# Altium footprint library BASIC Library.PCBLIB: 464 footprints (part 16 of 30)
Each footprint in its own frame and in the unit in brackets; x right, y up, seen from the top. Pads: shape width x height; smd on the part's side, far side on the other; paste and mask are expansions set on the pad; w line width, h text height; cw(c..) or ccw(c..) is an arc to the next point about the centre after c.
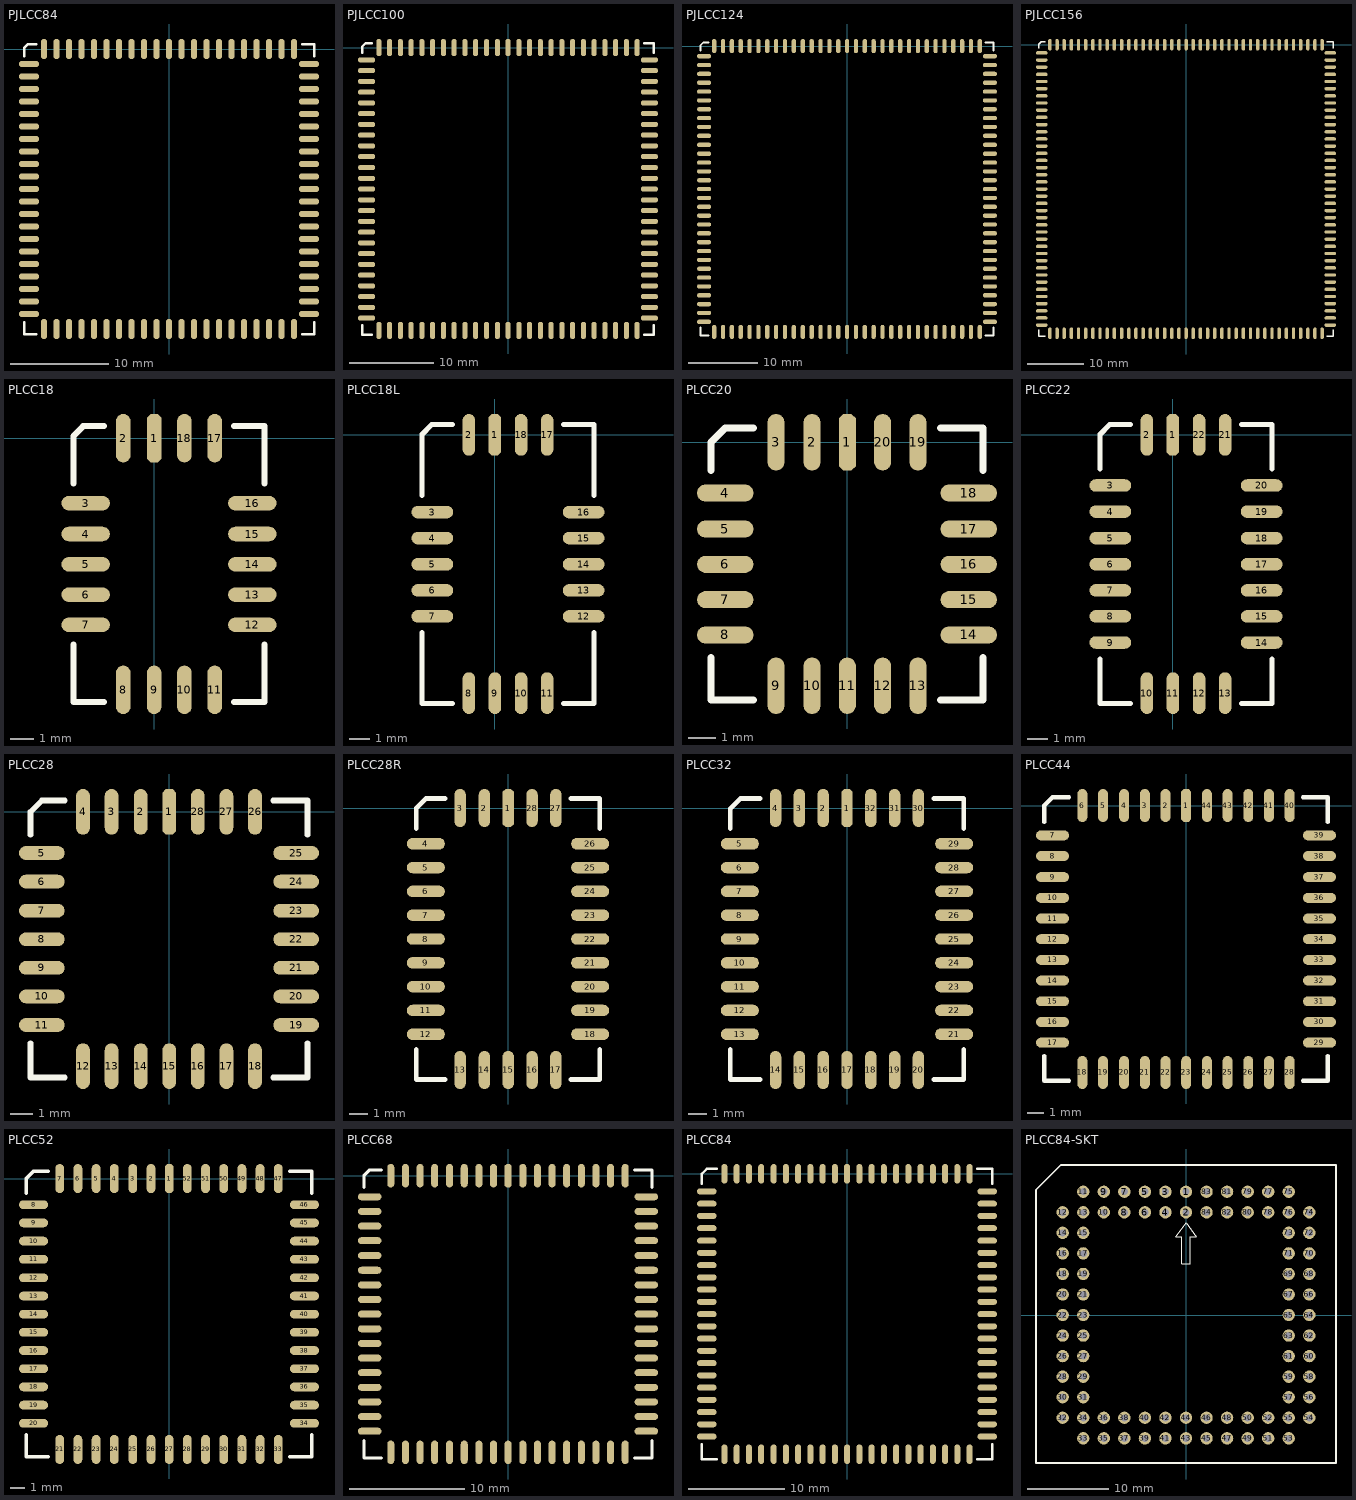
[diagram p15: the footprints below, top view; thin cyan lines are the x and y axes]

## PJLCC84 [mil]
pads (84):
  oct 24x80 smd: 1(0,0)
  oval 24x80 smd: 2(-50,0) 3(-100,0) 4(-150,0) 5(-200,0) 6(-250,0) 7(-300,0) 8(-350,0) 9(-400,0) 10(-450,0) 11(-500,0) 33(-500,-1120) 34(-450,-1120) 35(-400,-1120) 36(-350,-1120) 37(-300,-1120) 38(-250,-1120) 39(-200,-1120) 40(-150,-1120) 41(-100,-1120) 42(-50,-1120) 43(0,-1120) 44(50,-1120) 45(100,-1120) 46(150,-1120) 47(200,-1120) 48(250,-1120) 49(300,-1120) 50(350,-1120) 51(400,-1120) 52(450,-1120) 53(500,-1120) 75(500,0) 76(450,0) 77(400,0) 78(350,0) 79(300,0) 80(250,0) 81(200,0) 82(150,0) 83(100,0) 84(50,0)
  oval 80x24 smd: 12(-560,-60) 13(-560,-110) 14(-560,-160) 15(-560,-210) 16(-560,-260) 17(-560,-310) 18(-560,-360) 19(-560,-410) 20(-560,-460) 21(-560,-510) 22(-560,-560) 23(-560,-610) 24(-560,-660) 25(-560,-710) 26(-560,-760) 27(-560,-810) 28(-560,-860) 29(-560,-910) 30(-560,-960) 31(-560,-1010) 32(-560,-1060) 54(560,-1060) 55(560,-1010) 56(560,-960) 57(560,-910) 58(560,-860) 59(560,-810) 60(560,-760) 61(560,-710) 62(560,-660) 63(560,-610) 64(560,-560) 65(560,-510) 66(560,-460) 67(560,-410) 68(560,-360) 69(560,-310) 70(560,-260) 71(560,-210) 72(560,-160) 73(560,-110) 74(560,-60)
TopOverlay:
  lines w10: -580,-1092 -580,-1140 -532,-1140 ; -580,-28 -580,4 -564,20 -532,20 ; 532,-1140 580,-1140 580,-1092 ; 532,20 580,20 580,-28

## PJLCC100 [mil]
pads (100):
  oct 24x80 smd: 1(0,0)
  oval 24x80 smd: 2(-50,0) 3(-100,0) 4(-151,0) 5(-201,0) 6(-251,0) 7(-301,0) 8(-351,0) 9(-401,0) 10(-451,0) 11(-501,0) 12(-551,0) 13(-601,0) 39(-601,-1315) 40(-551,-1315) 41(-501,-1315) 42(-451,-1315) 43(-401,-1315) 44(-351,-1315) 45(-301,-1315) 46(-251,-1315) 47(-201,-1315) 48(-151,-1315) 49(-100,-1315) 50(-50,-1315) 51(0,-1315) 52(50,-1315) 53(100,-1315) 54(150,-1315) 55(200,-1315) 56(250,-1315) 57(300,-1315) 58(350,-1315) 59(400,-1315) 60(450,-1315) 61(500,-1315) 62(550,-1315) 63(600,-1315) 89(600,0) 90(550,0) 91(500,0) 92(450,0) 93(400,0) 94(350,0) 95(300,0) 96(250,0) 97(200,0) 98(150,0) 99(100,0) 100(50,0)
  oval 80x24 smd: 14(-658,-57) 15(-658,-107) 16(-658,-157) 17(-658,-207) 18(-658,-257) 19(-658,-307) 20(-658,-357) 21(-658,-407) 22(-658,-457) 23(-658,-507) 24(-658,-558) 25(-658,-608) 26(-658,-658) 27(-658,-708) 28(-658,-758) 29(-658,-808) 30(-658,-858) 31(-658,-908) 32(-658,-958) 33(-658,-1008) 34(-658,-1058) 35(-658,-1108) 36(-658,-1158) 37(-658,-1208) 38(-658,-1258) 64(657,-1258) 65(657,-1208) 66(657,-1158) 67(657,-1108) 68(657,-1058) 69(657,-1008) 70(657,-958) 71(657,-908) 72(657,-858) 73(657,-808) 74(657,-758) 75(657,-708) 76(657,-658) 77(657,-608) 78(657,-558) 79(657,-507) 80(657,-457) 81(657,-407) 82(657,-357) 83(657,-307) 84(657,-257) 85(657,-207) 86(657,-157) 87(657,-107) 88(657,-57)
TopOverlay:
  lines w10: -678,-1290 -678,-1335 -633,-1335 ; -678,-25 -678,5 -663,20 -633,20 ; 632,-1335 677,-1335 677,-1290 ; 632,20 677,20 677,-25

## PJLCC124 [mil]
pads (124):
  oct 24x80 smd: 1(0,0)
  oval 24x80 smd: 2(-50,0) 3(-100,0) 4(-150,0) 5(-200,0) 6(-250,0) 7(-301,0) 8(-351,0) 9(-401,0) 10(-451,0) 11(-501,0) 12(-551,0) 13(-601,0) 14(-651,0) 15(-701,0) 16(-751,0) 48(-751,-1615) 49(-701,-1615) 50(-651,-1615) 51(-601,-1615) 52(-551,-1615) 53(-501,-1615) 54(-451,-1615) 55(-401,-1615) 56(-351,-1615) 57(-301,-1615) 58(-250,-1615) 59(-200,-1615) 60(-150,-1615) 61(-100,-1615) 62(-50,-1615) 63(0,-1615) 64(50,-1615) 65(100,-1615) 66(150,-1615) 67(200,-1615) 68(250,-1615) 69(300,-1615) 70(350,-1615) 71(400,-1615) 72(450,-1615) 73(500,-1615) 74(550,-1615) 75(600,-1615) 76(650,-1615) 77(700,-1615) 78(750,-1615) 110(750,0) 111(700,0) 112(650,0) 113(600,0) 114(550,0) 115(500,0) 116(450,0) 117(400,0) 118(350,0) 119(300,0) 120(250,0) 121(200,0) 122(150,0) 123(100,0) 124(50,0)
  oval 80x24 smd: 17(-808,-57) 18(-808,-107) 19(-808,-157) 20(-808,-207) 21(-808,-257) 22(-808,-307) 23(-808,-357) 24(-808,-407) 25(-808,-457) 26(-808,-507) 27(-808,-558) 28(-808,-608) 29(-808,-658) 30(-808,-708) 31(-808,-758) 32(-808,-808) 33(-808,-858) 34(-808,-908) 35(-808,-958) 36(-808,-1008) 37(-808,-1058) 38(-808,-1108) 39(-808,-1158) 40(-808,-1208) 41(-808,-1258) 42(-808,-1308) 43(-808,-1358) 44(-808,-1408) 45(-808,-1458) 46(-808,-1508) 47(-808,-1558) 79(807,-1558) 80(807,-1508) 81(807,-1458) 82(807,-1408) 83(807,-1358) 84(807,-1308) 85(807,-1258) 86(807,-1208) 87(807,-1158) 88(807,-1108) 89(807,-1058) 90(807,-1008) 91(807,-958) 92(807,-908) 93(807,-858) 94(807,-808) 95(807,-758) 96(807,-708) 97(807,-658) 98(807,-608) 99(807,-558) 100(807,-507) 101(807,-457) 102(807,-407) 103(807,-357) 104(807,-307) 105(807,-257) 106(807,-207) 107(807,-157) 108(807,-107) 109(807,-57)
TopOverlay:
  lines w10: -828,-1590 -828,-1635 -783,-1635 ; -828,-25 -828,5 -813,20 -783,20 ; 782,-1635 827,-1635 827,-1590 ; 782,20 827,20 827,-25

## PJLCC156 [mil]
pads (156):
  oct 24x80 smd: 1(0,0)
  oval 24x80 smd: 2(-50,0) 3(-100,0) 4(-150,0) 5(-200,0) 6(-250,0) 7(-300,0) 8(-350,0) 9(-400,0) 10(-450,0) 11(-501,0) 12(-551,0) 13(-601,0) 14(-651,0) 15(-701,0) 16(-751,0) 17(-801,0) 18(-851,0) 19(-901,0) 20(-951,0) 60(-951,-2015) 61(-901,-2015) 62(-851,-2015) 63(-801,-2015) 64(-751,-2015) 65(-701,-2015) 66(-651,-2015) 67(-601,-2015) 68(-551,-2015) 69(-501,-2015) 70(-450,-2015) 71(-400,-2015) 72(-350,-2015) 73(-300,-2015) 74(-250,-2015) 75(-200,-2015) 76(-150,-2015) 77(-100,-2015) 78(-50,-2015) 79(0,-2015) 80(50,-2015) 81(100,-2015) 82(150,-2015) 83(200,-2015) 84(250,-2015) 85(300,-2015) 86(350,-2015) 87(400,-2015) 88(450,-2015) 89(500,-2015) 90(550,-2015) 91(600,-2015) 92(650,-2015) 93(700,-2015) 94(750,-2015) 95(800,-2015) 96(850,-2015) 97(900,-2015) 98(950,-2015) 138(950,0) 139(900,0) 140(850,0) 141(800,0) 142(750,0) 143(700,0) 144(650,0) 145(600,0) 146(550,0) 147(500,0) 148(450,0) 149(400,0) 150(350,0) 151(300,0) 152(250,0) 153(200,0) 154(150,0) 155(100,0) 156(50,0)
  oval 80x24 smd: 21(-1008,-57) 22(-1008,-107) 23(-1008,-157) 24(-1008,-207) 25(-1008,-257) 26(-1008,-307) 27(-1008,-357) 28(-1008,-407) 29(-1008,-457) 30(-1008,-507) 31(-1008,-558) 32(-1008,-608) 33(-1008,-658) 34(-1008,-708) 35(-1008,-758) 36(-1008,-808) 37(-1008,-858) 38(-1008,-908) 39(-1008,-958) 40(-1008,-1008) 41(-1008,-1058) 42(-1008,-1108) 43(-1008,-1158) 44(-1008,-1208) 45(-1008,-1258) 46(-1008,-1308) 47(-1008,-1358) 48(-1008,-1408) 49(-1008,-1458) 50(-1008,-1508) 51(-1008,-1558) 52(-1008,-1608) 53(-1008,-1658) 54(-1008,-1708) 55(-1008,-1758) 56(-1008,-1808) 57(-1008,-1858) 58(-1008,-1908) 59(-1008,-1958) 99(1007,-1958) 100(1007,-1908) 101(1007,-1858) 102(1007,-1808) 103(1007,-1758) 104(1007,-1708) 105(1007,-1658) 106(1007,-1608) 107(1007,-1558) 108(1007,-1508) 109(1007,-1458) 110(1007,-1408) 111(1007,-1358) 112(1007,-1308) 113(1007,-1258) 114(1007,-1208) 115(1007,-1158) 116(1007,-1108) 117(1007,-1058) 118(1007,-1008) 119(1007,-958) 120(1007,-908) 121(1007,-858) 122(1007,-808) 123(1007,-758) 124(1007,-708) 125(1007,-658) 126(1007,-608) 127(1007,-558) 128(1007,-507) 129(1007,-457) 130(1007,-407) 131(1007,-357) 132(1007,-307) 133(1007,-257) 134(1007,-207) 135(1007,-157) 136(1007,-107) 137(1007,-57)
TopOverlay:
  lines w10: -1028,-1990 -1028,-2035 -983,-2035 ; -1028,-25 -1028,5 -1013,20 -983,20 ; 982,-2035 1027,-2035 1027,-1990 ; 982,20 1027,20 1027,-25

## PLCC18 [mil]
pads (18):
  oct 24x80 smd: 1(0,0)
  oval 24x80 smd: 2(-51,0) 8(-51,-415) 9(0,-415) 10(50,-415) 11(100,-415) 17(100,0) 18(50,0)
  oval 80x24 smd: 3(-113,-107) 4(-113,-158) 5(-113,-208) 6(-113,-258) 7(-113,-308) 12(162,-308) 13(162,-258) 14(162,-208) 15(162,-158) 16(162,-107)
TopOverlay:
  lines w10: -133,-340 -133,-435 -83,-435 ; -133,-75 -133,4 -117,20 -83,20 ; 132,-435 182,-435 182,-340 ; 132,20 182,20 182,-75

## PLCC18L [mil]
pads (18):
  oct 24x80 smd: 1(0,0)
  oval 24x80 smd: 2(-50,0) 8(-50,-495) 9(0,-495) 10(50,-495) 11(100,-495) 17(100,0) 18(50,0)
  oval 80x24 smd: 3(-120,-148) 4(-120,-198) 5(-120,-248) 6(-120,-298) 7(-120,-348) 12(170,-348) 13(170,-298) 14(170,-248) 15(170,-198) 16(170,-148)
TopOverlay:
  lines w10: -140,-379 -140,-515 -82,-515 ; -140,-116 -140,1 -121,20 -82,20 ; 132,-515 190,-515 190,-379 ; 132,20 190,20 190,-116

## PLCC20 [mil]
pads (20):
  oct 24x80 smd: 1(0,0)
  oval 24x80 smd: 2(-50,0) 3(-101,0) 9(-101,-345) 10(-50,-345) 11(0,-345) 12(50,-345) 13(100,-345) 19(100,0) 20(50,0)
  oval 80x24 smd: 4(-173,-72) 5(-173,-123) 6(-173,-173) 7(-173,-223) 8(-173,-273) 14(172,-273) 15(172,-223) 16(172,-173) 17(172,-123) 18(172,-72)
TopOverlay:
  lines w10: -193,-305 -193,-365 -133,-365 ; -193,-40 -193,0 -173,20 -133,20 ; 132,-365 192,-365 192,-305 ; 132,20 192,20 192,-40

## PLCC22 [mil]
pads (22):
  oct 24x80 smd: 1(0,0)
  oval 24x80 smd: 2(-50,0) 10(-50,-495) 11(0,-495) 12(50,-495) 13(100,-495) 21(100,0) 22(50,0)
  oval 80x24 smd: 3(-120,-97) 4(-120,-147) 5(-120,-198) 6(-120,-248) 7(-120,-298) 8(-120,-348) 9(-120,-398) 14(170,-398) 15(170,-348) 16(170,-298) 17(170,-248) 18(170,-198) 19(170,-147) 20(170,-97)
TopOverlay:
  lines w10: -140,-430 -140,-515 -82,-515 ; -140,-65 -140,1 -121,20 -82,20 ; 132,-515 190,-515 190,-430 ; 132,20 190,20 190,-65

## PLCC28 [mil]
pads (28):
  oct 24x80 smd: 1(0,0)
  oval 24x80 smd: 2(-50,0) 3(-101,0) 4(-151,0) 12(-151,-445) 13(-101,-445) 14(-50,-445) 15(0,-445) 16(50,-445) 17(100,-445) 18(150,-445) 26(150,0) 27(100,0) 28(50,0)
  oval 80x24 smd: 5(-223,-72) 6(-223,-122) 7(-223,-173) 8(-223,-223) 9(-223,-273) 10(-223,-323) 11(-223,-373) 19(222,-373) 20(222,-323) 21(222,-273) 22(222,-223) 23(222,-173) 24(222,-122) 25(222,-72)
TopOverlay:
  lines w10: -243,-405 -243,-465 -183,-465 ; -243,-40 -243,0 -223,20 -183,20 ; 182,-465 242,-465 242,-405 ; 182,20 242,20 242,-40

## PLCC28R [mil]
pads (28):
  oct 24x80 smd: 1(0,0)
  oval 24x80 smd: 2(-50,0) 3(-101,0) 13(-101,-550) 14(-50,-550) 15(0,-550) 16(50,-550) 17(100,-550) 27(100,0) 28(50,0)
  oval 80x24 smd: 4(-173,-75) 5(-173,-125) 6(-173,-175) 7(-173,-225) 8(-173,-275) 9(-173,-325) 10(-173,-375) 11(-173,-425) 12(-173,-475) 18(172,-475) 19(172,-425) 20(172,-375) 21(172,-325) 22(172,-275) 23(172,-225) 24(172,-175) 25(172,-125) 26(172,-75)
TopOverlay:
  lines w10: -193,-507 -193,-570 -133,-570 ; -193,-43 -193,0 -173,20 -133,20 ; 132,-570 192,-570 192,-507 ; 132,20 192,20 192,-43

## PLCC32 [mil]
pads (32):
  oct 24x80 smd: 1(0,0)
  oval 24x80 smd: 2(-50,0) 3(-100,0) 4(-150,0) 14(-150,-550) 15(-100,-550) 16(-50,-550) 17(0,-550) 18(50,-550) 19(100,-550) 20(150,-550) 30(150,0) 31(100,0) 32(50,0)
  oval 80x24 smd: 5(-225,-75) 6(-225,-125) 7(-225,-175) 8(-225,-225) 9(-225,-275) 10(-225,-325) 11(-225,-375) 12(-225,-425) 13(-225,-475) 21(225,-475) 22(225,-425) 23(225,-375) 24(225,-325) 25(225,-275) 26(225,-225) 27(225,-175) 28(225,-125) 29(225,-75)
TopOverlay:
  lines w10: -245,-507 -245,-570 -182,-570 ; -245,-43 -245,-1 -224,20 -182,20 ; 182,-570 245,-570 245,-507 ; 182,20 245,20 245,-43

## PLCC44 [mil]
pads (44):
  oct 24x80 smd: 1(0,0)
  oval 24x80 smd: 2(-50,0) 3(-100,0) 4(-150,0) 5(-201,0) 6(-251,0) 18(-251,-645) 19(-201,-645) 20(-150,-645) 21(-100,-645) 22(-50,-645) 23(0,-645) 24(50,-645) 25(100,-645) 26(150,-645) 27(200,-645) 28(250,-645) 40(250,0) 41(200,0) 42(150,0) 43(100,0) 44(50,0)
  oval 80x24 smd: 7(-323,-72) 8(-323,-122) 9(-323,-173) 10(-323,-223) 11(-323,-273) 12(-323,-323) 13(-323,-373) 14(-323,-423) 15(-323,-473) 16(-323,-523) 17(-323,-573) 29(322,-573) 30(322,-523) 31(322,-473) 32(322,-423) 33(322,-373) 34(322,-323) 35(322,-273) 36(322,-223) 37(322,-173) 38(322,-122) 39(322,-72)
TopOverlay:
  lines w10: -343,-605 -343,-665 -283,-665 ; -343,-40 -343,0 -323,20 -283,20 ; 282,-665 342,-665 342,-605 ; 282,20 342,20 342,-40

## PLCC52 [mil]
pads (52):
  oct 24x80 smd: 1(0,0)
  oval 24x80 smd: 2(-50,0) 3(-100,0) 4(-151,0) 5(-201,0) 6(-251,0) 7(-301,0) 21(-301,-745) 22(-251,-745) 23(-201,-745) 24(-151,-745) 25(-100,-745) 26(-50,-745) 27(0,-745) 28(50,-745) 29(100,-745) 30(150,-745) 31(200,-745) 32(250,-745) 33(300,-745) 47(300,0) 48(250,0) 49(200,0) 50(150,0) 51(100,0) 52(50,0)
  oval 80x24 smd: 8(-373,-72) 9(-373,-122) 10(-373,-172) 11(-373,-222) 12(-373,-273) 13(-373,-323) 14(-373,-373) 15(-373,-423) 16(-373,-473) 17(-373,-523) 18(-373,-573) 19(-373,-623) 20(-373,-673) 34(372,-673) 35(372,-623) 36(372,-573) 37(372,-523) 38(372,-473) 39(372,-423) 40(372,-373) 41(372,-323) 42(372,-273) 43(372,-222) 44(372,-172) 45(372,-122) 46(372,-72)
TopOverlay:
  lines w10: -393,-705 -393,-765 -333,-765 ; -393,-40 -393,0 -373,20 -333,20 ; 332,-765 392,-765 392,-705 ; 332,20 392,20 392,-40

## PLCC68 [mil]
pads (68):
  oct 24x80 smd: 1(0,0)
  oval 24x80 smd: 2(-50,0) 3(-100,0) 4(-150,0) 5(-200,0) 6(-251,0) 7(-301,0) 8(-351,0) 9(-401,0) 27(-401,-945) 28(-351,-945) 29(-301,-945) 30(-251,-945) 31(-200,-945) 32(-150,-945) 33(-100,-945) 34(-50,-945) 35(0,-945) 36(50,-945) 37(100,-945) 38(150,-945) 39(200,-945) 40(250,-945) 41(300,-945) 42(350,-945) 43(400,-945) 61(400,0) 62(350,0) 63(300,0) 64(250,0) 65(200,0) 66(150,0) 67(100,0) 68(50,0)
  oval 80x24 smd: 10(-473,-72) 11(-473,-122) 12(-473,-172) 13(-473,-222) 14(-473,-273) 15(-473,-323) 16(-473,-373) 17(-473,-423) 18(-473,-473) 19(-473,-523) 20(-473,-573) 21(-473,-623) 22(-473,-673) 23(-473,-723) 24(-473,-773) 25(-473,-823) 26(-473,-873) 44(472,-873) 45(472,-823) 46(472,-773) 47(472,-723) 48(472,-673) 49(472,-623) 50(472,-573) 51(472,-523) 52(472,-473) 53(472,-423) 54(472,-373) 55(472,-323) 56(472,-273) 57(472,-222) 58(472,-172) 59(472,-122) 60(472,-72)
TopOverlay:
  lines w10: -493,-905 -493,-965 -433,-965 ; -493,-40 -493,0 -473,20 -433,20 ; 432,-965 492,-965 492,-905 ; 432,20 492,20 492,-40

## PLCC84 [mil]
pads (84):
  oct 24x80 smd: 1(0,0)
  oval 24x80 smd: 2(-50,0) 3(-100,0) 4(-150,0) 5(-200,0) 6(-250,0) 7(-300,0) 8(-351,0) 9(-401,0) 10(-451,0) 11(-501,0) 33(-501,-1145) 34(-451,-1145) 35(-401,-1145) 36(-351,-1145) 37(-300,-1145) 38(-250,-1145) 39(-200,-1145) 40(-150,-1145) 41(-100,-1145) 42(-50,-1145) 43(0,-1145) 44(50,-1145) 45(100,-1145) 46(150,-1145) 47(200,-1145) 48(250,-1145) 49(300,-1145) 50(350,-1145) 51(400,-1145) 52(450,-1145) 53(500,-1145) 75(500,0) 76(450,0) 77(400,0) 78(350,0) 79(300,0) 80(250,0) 81(200,0) 82(150,0) 83(100,0) 84(50,0)
  oval 80x24 smd: 12(-573,-72) 13(-573,-122) 14(-573,-172) 15(-573,-222) 16(-573,-273) 17(-573,-323) 18(-573,-373) 19(-573,-423) 20(-573,-473) 21(-573,-523) 22(-573,-573) 23(-573,-623) 24(-573,-673) 25(-573,-723) 26(-573,-773) 27(-573,-823) 28(-573,-873) 29(-573,-923) 30(-573,-973) 31(-573,-1023) 32(-573,-1073) 54(572,-1073) 55(572,-1023) 56(572,-973) 57(572,-923) 58(572,-873) 59(572,-823) 60(572,-773) 61(572,-723) 62(572,-673) 63(572,-623) 64(572,-573) 65(572,-523) 66(572,-473) 67(572,-423) 68(572,-373) 69(572,-323) 70(572,-273) 71(572,-222) 72(572,-172) 73(572,-122) 74(572,-72)
TopOverlay:
  lines w10: -593,-1105 -593,-1165 -533,-1165 ; -593,-40 -593,0 -573,20 -533,20 ; 532,-1165 592,-1165 592,-1105 ; 532,20 592,20 592,-40

## PLCC84-SKT [mil]
pads (84):
  round 60 hole 34: 1(0,600) 2(0,500) 3(-100,600) 4(-100,500) 5(-200,600) 6(-200,500) 7(-300,600) 8(-300,500) 9(-400,600) 10(-400,500) 11(-500,600) 12(-600,500) 13(-500,500) 14(-600,400) 15(-500,400) 16(-600,300) 17(-500,300) 18(-600,200) 19(-500,200) 20(-600,100) 21(-500,100) 22(-600,0) 23(-500,0) 24(-600,-100) 25(-500,-100) 26(-600,-200) 27(-500,-200) 28(-600,-300) 29(-500,-300) 30(-600,-400) 31(-500,-400) 32(-600,-500) 33(-500,-600) 34(-500,-500) 35(-400,-600) 36(-400,-500) 37(-300,-600) 38(-300,-500) 39(-200,-600) 40(-200,-500) 41(-100,-600) 42(-100,-500) 43(0,-600) 44(0,-500) 45(100,-600) 46(100,-500) 47(200,-600) 48(200,-500) 49(300,-600) 50(300,-500) 51(400,-600) 52(400,-500) 53(500,-600) 54(600,-500) 55(500,-500) 56(600,-400) 57(500,-400) 58(600,-300) 59(500,-300) 60(600,-200) 61(500,-200) 62(600,-100) 63(500,-100) 64(600,0) 65(500,0) 66(600,100) 67(500,100) 68(600,200) 69(500,200) 70(600,300) 71(500,300) 72(600,400) 73(500,400) 74(600,500) 75(500,600) 76(500,500) 77(400,600) 78(400,500) 79(300,600) 80(300,500) 81(200,600) 82(200,500) 83(100,600) 84(100,500)
TopOverlay:
  lines w6: -50,380 -20,380 -20,250 20,250 20,380 50,380 0,450 -50,380
  lines w8: -730,-720 -730,610 -610,730 730,730 730,-720 -730,-720